# EAGLE library part TC20-11HWA (library display-kingbright)
50mm (2.0 INCH) 5x7 DOT MATRIX DISPLAY Source: http://www.kingbright.com/manager/upload/pdf/TC20-11EWA(Ver1189410378.9)
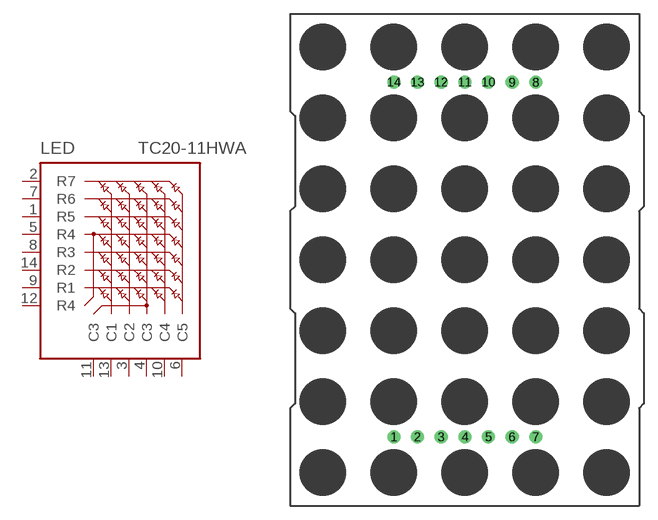
[diagram p4: symbol with the pads of TA20-11HWA; footprint TA20-11HWA]

Designator prefix LED

## TC20-11HWA (OC_FARNELL: unknown; OC_NEWARK: unknown)  [TA20-11HWA]
1  R5  pas
2  R7  pas
3  C2  pas
4  C3  pas
5  R4  pas
6  C5  pas
7  R6  pas
8  R3  pas
9  R1  pas
10  C4  pas
11  C3  pas
12  R4  pas
13  C1  pas
14  R2  pas

## Footprint TA20-11HWA (pad centres in mm)
50mm (2.0 INCH) 5x7 DOT MATRIX DISPLAY Source: http://www.kingbright.com/manager/upload/pdf/TC20-11EWA(Ver1189410378.9)
drill 0.9 pad 1.4: 1 -7.62,-19.05; 2 -5.08,-19.05; 3 -2.54,-19.05; 4 0,-19.05; 5 2.54,-19.05; 6 5.08,-19.05; 7 7.62,-19.05; 8 7.62,19.05; 9 5.08,19.05; 10 2.54,19.05; 11 0,19.05; 12 -2.54,19.05; 13 -5.08,19.05; 14 -7.62,19.05